# Altium footprint library SOD128_3824.PcbLib: 1 footprints
Each footprint in its own frame and in the unit in brackets; x right, y up, seen from the top. Pads: shape width x height; smd on the part's side, far side on the other; paste and mask are expansions set on the pad; w line width, h text height; cw(c..) or ccw(c..) is an arc to the next point about the centre after c.
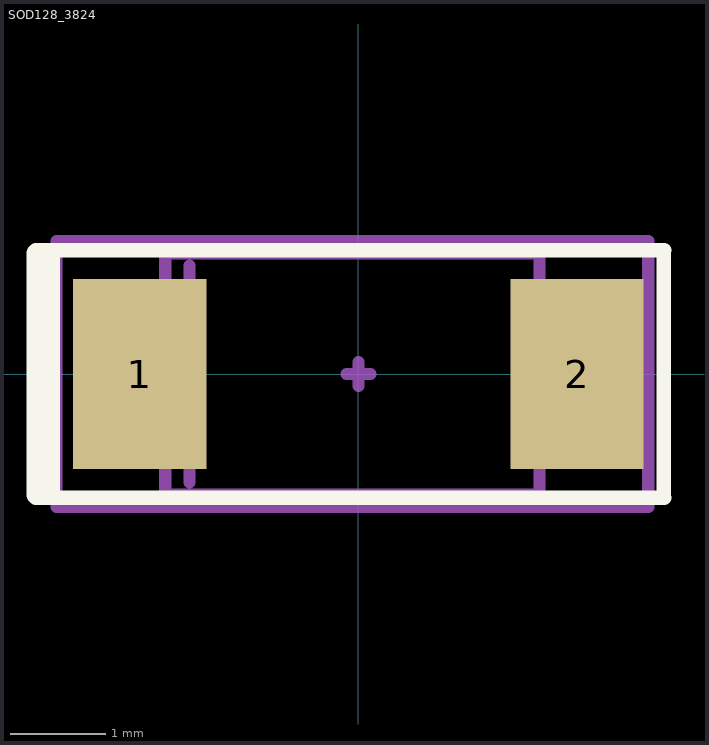
[diagram p0: the footprint, top view; thin cyan lines are the x and y axes]

## SOD128_3824 [mm]
pads (2):
  rect 1.4x2 smd: 1(-2.3,0) 2(2.3,0)
Top Overlay:
  lines w0.152: -3.393,-1.3 3.214,-1.3 ; -3.393,1.3 3.214,1.3 ; 3.212,-1.295 3.212,1.295
  lines w0.203: -3.392,-1.27 -3.392,1.27 ; -3.24,-1.27 -3.24,1.27
Top Assembly:
  lines w0.127: -1.778,-1.143 -1.778,1.143 ; -2.032,-1.27 1.905,-1.27 1.905,1.27 -2.032,1.27 -2.032,-0.127 -2.032,-1.27
Top Courtyard:
  lines w0.127: -0.127,0 0.127,0 ; 0,-0.127 0,0.127 ; -3.175,-1.397 3.048,-1.397 3.048,1.397 -3.175,1.397 -3.175,-1.397
3D body "User Library-SOD128.step": height 1.1, standoff -0.01, extent -2.478,-1.372 2.522,1.328